# EAGLE library part PYBOARD1.1 (library SobieskiSat2)
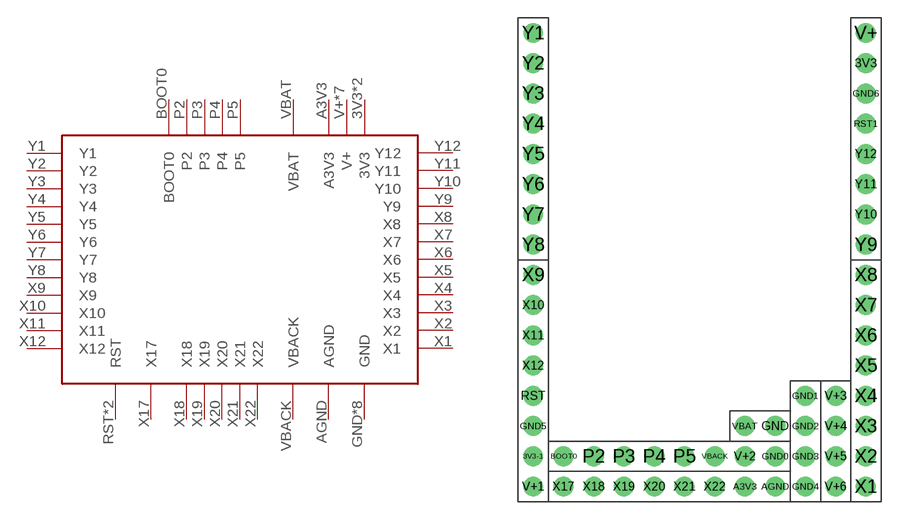
[diagram p5: symbol with the pads of MODULE_PYBOARD; footprint MODULE_PYBOARD]

Designator prefix -

## PYBOARD1.1  [MODULE_PYBOARD]
3V3  3V3
3V3-1  3V3
A3V3  A3V3
AGND  AGND
BOOT0  BOOT0
GND  GND
GND0  GND
GND1  GND
GND2  GND
GND3  GND
GND4  GND
GND5  GND
GND6  GND
P2  P2
P3  P3
P4  P4
P5  P5
RST  RST
RST1  RST
V+  V+
V+1  V+
V+2  V+
V+3  V+
V+4  V+
V+5  V+
V+6  V+
VBACK  VBACK
VBAT  VBAT
X1  X1
X2  X2
X3  X3
X4  X4
X5  X5
X6  X6
X7  X7
X8  X8
X9  X9
X10  X10
X11  X11
X12  X12
X17  X17
X18  X18
X19  X19
X20  X20
X21  X21
X22  X22
Y1  Y1
Y2  Y2
Y3  Y3
Y4  Y4
Y5  Y5
Y6  Y6
Y7  Y7
Y8  Y8
Y9  Y9
Y10  Y10
Y11  Y11
Y12  Y12

## Footprint MODULE_PYBOARD (pad centres in mm)
drill 1.016 pad 1.676: 3V3 21.59,5.08; 3V3-1 -6.35,-27.94; A3V3 11.43,-30.48; AGND 13.97,-30.48; BOOT0 -3.81,-27.94; GND 13.97,-25.4; GND0 13.97,-27.94; GND1 16.51,-22.86; GND2 16.51,-25.4; GND3 16.51,-27.94; GND4 16.51,-30.48; GND5 -6.35,-25.4; GND6 21.59,2.54; P2 -1.27,-27.94; P3 1.27,-27.94; P4 3.81,-27.94; P5 6.35,-27.94; RST -6.35,-22.86; RST1 21.59,0; V+ 21.59,7.62; V+1 -6.35,-30.48; V+2 11.43,-27.94; V+3 19.05,-22.86; V+4 19.05,-25.4; V+5 19.05,-27.94; V+6 19.05,-30.48; VBACK 8.89,-27.94; VBAT 11.43,-25.4; X1 21.59,-30.48; X2 21.59,-27.94; X3 21.59,-25.4; X4 21.59,-22.86; X5 21.59,-20.32; X6 21.59,-17.78; X7 21.59,-15.24; X8 21.59,-12.7; X9 -6.35,-12.7; X10 -6.35,-15.24; X11 -6.35,-17.78; X12 -6.35,-20.32; X17 -3.81,-30.48; X18 -1.27,-30.48; X19 1.27,-30.48; X20 3.81,-30.48; X21 6.35,-30.48; X22 8.89,-30.48; Y1 -6.35,7.62; Y2 -6.35,5.08; Y3 -6.35,2.54; Y4 -6.35,0; Y5 -6.35,-2.54; Y6 -6.35,-5.08; Y7 -6.35,-7.62; Y8 -6.35,-10.16; Y9 21.59,-10.16; Y10 21.59,-7.62; Y11 21.59,-5.08; Y12 21.59,-2.54